# Altium footprint library Oscillators.PcbLib: 1 footprints
Each footprint in its own frame and in the unit in brackets; x right, y up, seen from the top. Pads: shape width x height; smd on the part's side, far side on the other; paste and mask are expansions set on the pad; w line width, h text height; cw(c..) or ccw(c..) is an arc to the next point about the centre after c.
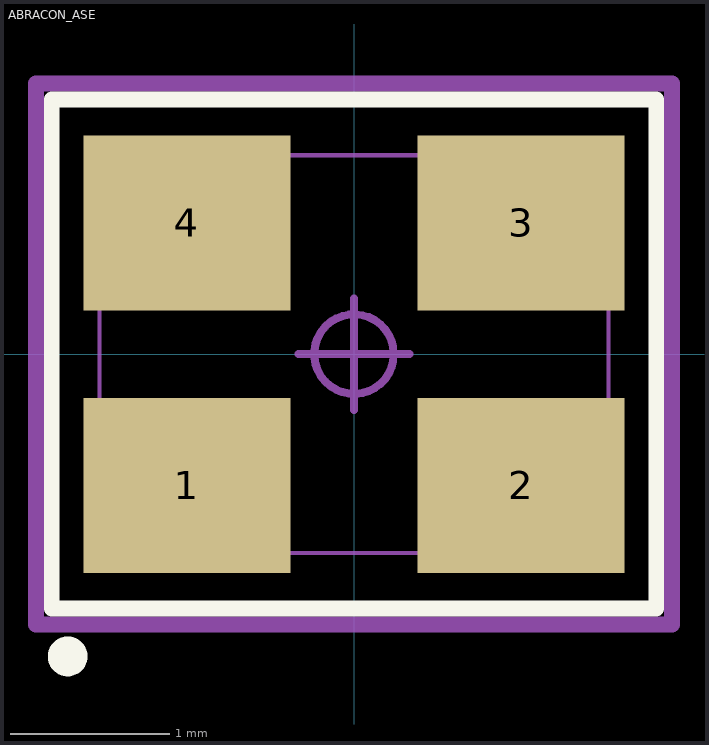
[diagram p0: the footprint, top view; thin cyan lines are the x and y axes]

## ABRACON_ASE [mm]
pads (4):
  rect 1.3x1.1 smd mask+0.04: 1(-1.05,-0.825) 2(1.05,-0.825) 3(1.05,0.825) 4(-1.05,0.825)
Top Overlay:
  circle w0.15: c-1.8,-1.9 r0.05
  lines w0.1: -1.9,-1.6 1.9,-1.6 1.9,1.6 -1.9,1.6 -1.9,-1.6
Mechanical 13:
  lines w0.025: -1.6,-0.475 -0.6,-0.475 -0.6,-1.25 ; -1.6,0.475 -0.6,0.475 -0.6,1.25 ; 0.6,-1.25 0.6,-0.475 1.6,-0.475 ; 0.6,1.25 0.6,0.475 1.6,0.475 ; -1.6,-1.25 -1.6,1.25 1.6,1.25 1.6,-1.25 -1.6,-1.25
Mechanical 15:
  circle w0.05: c0,0 r0.25
  lines w0.05: -0.35,0 0.35,0 ; 0,-0.35 0,0.35
  lines w0.1: -2,-1.7 -2,1.7 2,1.7 2,-1.7 -2,-1.7
3D body "ASE.STEP": height 1.2, standoff 0, extent -1.6,-1.25 1.6,1.25